# EAGLE library part TSW-124-02-S-S (library con-samtec)
THROUGH-HOLE .025" SQ POST HEADER Source: Samtec TSW.pdf
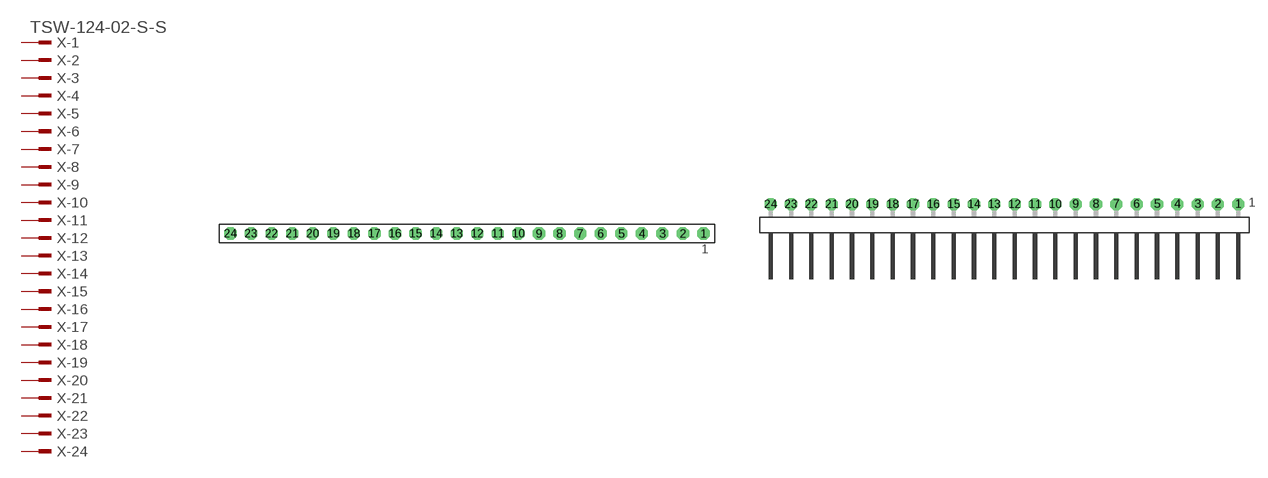
[diagram p222: symbol with the pads of TSW-124-02-S-S; footprints TSW-124-02-S-S, TSW-124-02-S-S-RA]

Designator prefix X; gates -1=MPINV -2=MPIN -3=MPIN -4=MPIN -5=MPIN -6=MPIN -7=MPIN -8=MPIN -9=MPIN -10=MPIN -11=MPIN -12=MPIN -13=MPIN -14=MPIN -15=MPIN -16=MPIN -17=MPIN -18=MPIN -19=MPIN -20=MPIN -21=MPIN -22=MPIN -23=MPIN -24=MPIN

## TSW-124-02-S-S (OC_FARNELL: unknown; OC_NEWARK: unknown)  [TSW-124-02-S-S]
1  -1:1  pas
2  -2:1  pas
3  -3:1  pas
4  -4:1  pas
5  -5:1  pas
6  -6:1  pas
7  -7:1  pas
8  -8:1  pas
9  -9:1  pas
10  -10:1  pas
11  -11:1  pas
12  -12:1  pas
13  -13:1  pas
14  -14:1  pas
15  -15:1  pas
16  -16:1  pas
17  -17:1  pas
18  -18:1  pas
19  -19:1  pas
20  -20:1  pas
21  -21:1  pas
22  -22:1  pas
23  -23:1  pas
24  -24:1  pas

## TSW-124-02-S-S-RA (OC_FARNELL: unknown; OC_NEWARK: unknown)  [TSW-124-02-S-S-RA]
Pads as for TSW-124-02-S-S

## Footprint TSW-124-02-S-S (pad centres in mm)
THROUGH-HOLE .025" SQ POST HEADER Source: Samtec TSW.pdf
drill 1 pad 1.5 octagon: 1 29.21,0; 2 26.67,0; 3 24.13,0; 4 21.59,0; 5 19.05,0; 6 16.51,0; 7 13.97,0; 8 11.43,0; 9 8.89,0; 10 6.35,0; 11 3.81,0; 12 1.27,0; 13 -1.27,0; 14 -3.81,0; 15 -6.35,0; 16 -8.89,0; 17 -11.43,0; 18 -13.97,0; 19 -16.51,0; 20 -19.05,0; 21 -21.59,0; 22 -24.13,0; 23 -26.67,0; 24 -29.21,0

## Footprint TSW-124-02-S-S-RA (pad centres in mm)
THROUGH-HOLE .025" SQ POST HEADER Source: Samtec TSW.pdf
drill 1 pad 1.5 octagon: 1 29.21,1.524; 2 26.67,1.524; 3 24.13,1.524; 4 21.59,1.524; 5 19.05,1.524; 6 16.51,1.524; 7 13.97,1.524; 8 11.43,1.524; 9 8.89,1.524; 10 6.35,1.524; 11 3.81,1.524; 12 1.27,1.524; 13 -1.27,1.524; 14 -3.81,1.524; 15 -6.35,1.524; 16 -8.89,1.524; 17 -11.43,1.524; 18 -13.97,1.524; 19 -16.51,1.524; 20 -19.05,1.524; 21 -21.59,1.524; 22 -24.13,1.524; 23 -26.67,1.524; 24 -29.21,1.524